# Altium footprint library Capacitor_THT.PcbLib: 378 footprints (part 3 of 24)
Each footprint in its own frame and in the unit in brackets; x right, y up, seen from the top. Pads: shape width x height; smd on the part's side, far side on the other; paste and mask are expansions set on the pad; w line width, h text height; cw(c..) or ccw(c..) is an arc to the next point about the centre after c.
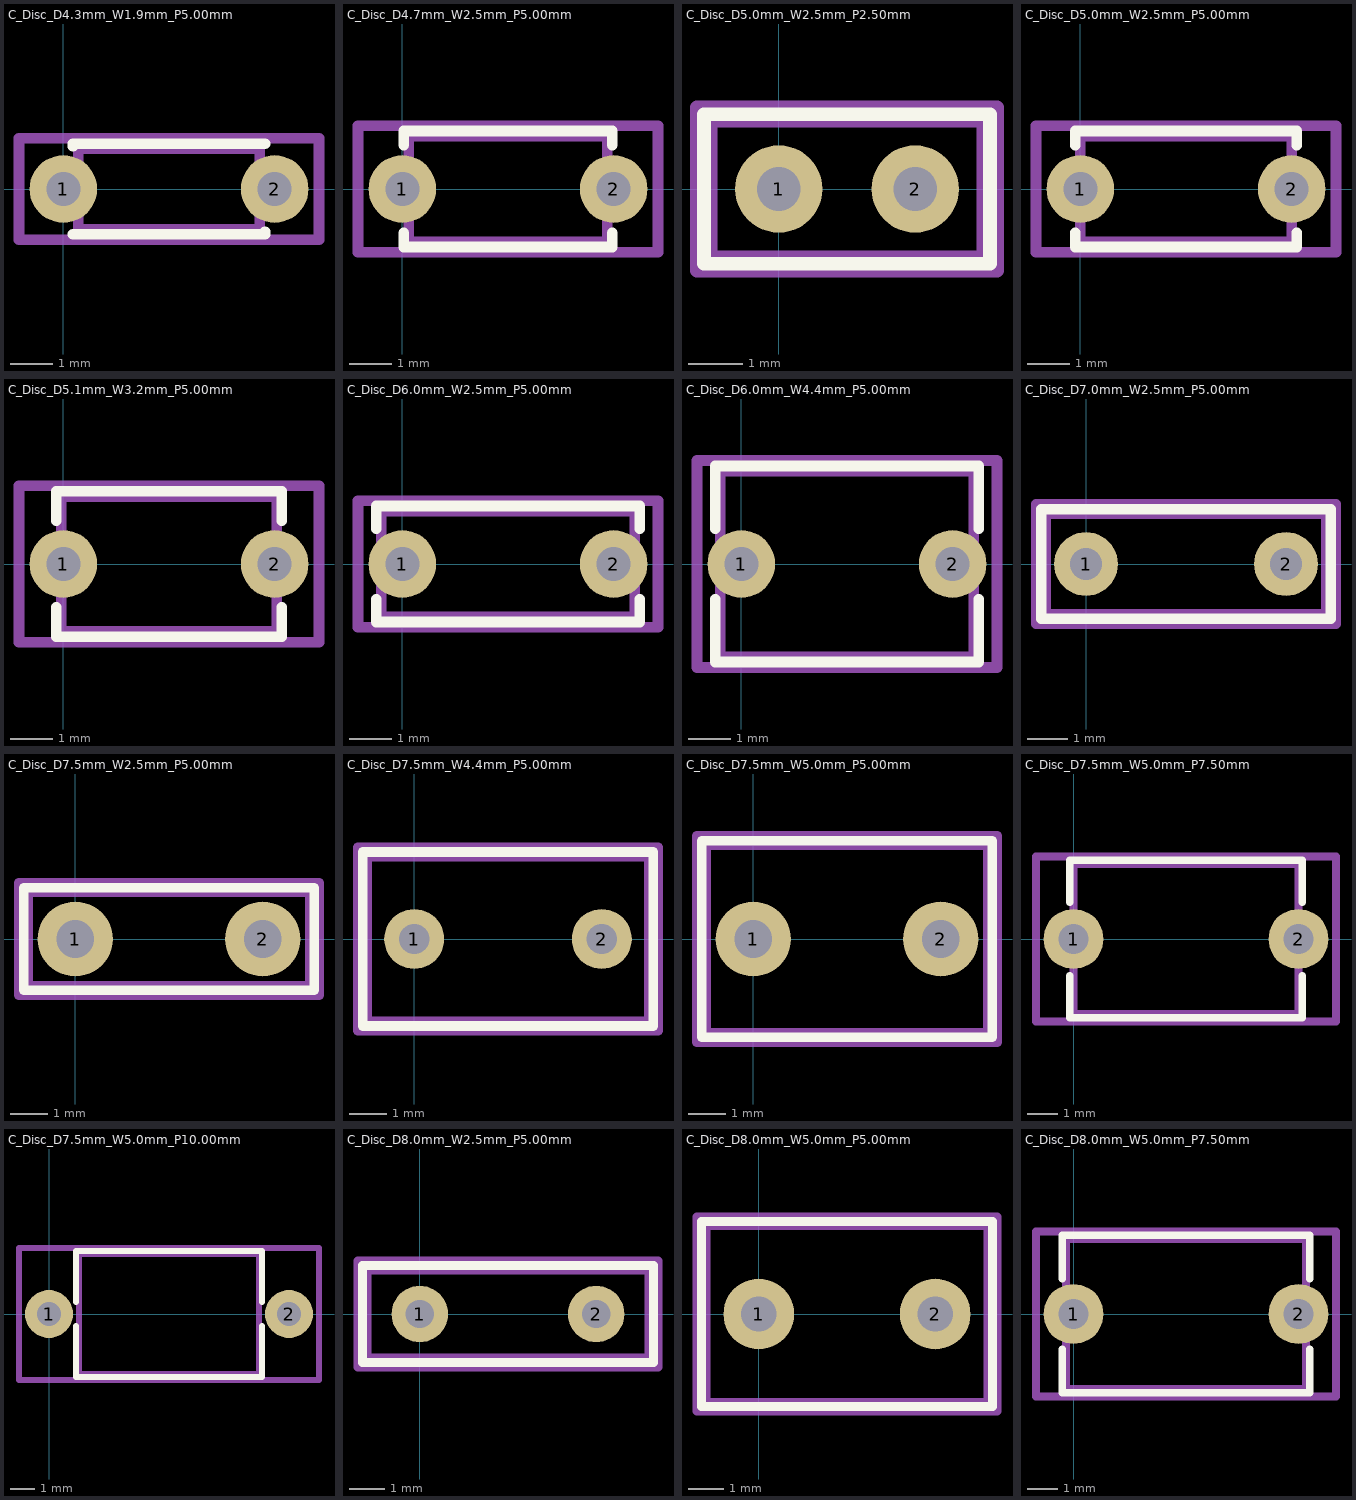
[diagram p2: the footprints below, top view; thin cyan lines are the x and y axes]

## C_Disc_D4.3mm_W1.9mm_P5.00mm [mm]
pads (2):
  round 1.6 hole 0.8: 1(0,0) 2(5,0)
F.SilkS:
  lines w0.254: 0.23,-1.07 4.77,-1.07 4.77,-1.014 ; 0.23,1.014 0.23,1.07 4.77,1.07
Top Assembly:
  lines w0.254: 0.35,-0.95 4.65,-0.95 4.65,0.95 0.35,0.95 0.35,-0.95
  text "'.Designator'" at -0.98,-0.723 h0.86
Top Courtyard:
  lines w0.254: -1.05,-1.2 6.05,-1.2 6.05,1.2 -1.05,1.2 -1.05,-1.2
Top Designator:
  text ".Designator" at -5.118,-0.508 h1.52

## C_Disc_D4.7mm_W2.5mm_P5.00mm [mm]
pads (2):
  round 1.6 hole 0.8: 1(0,0) 2(5,0)
F.SilkS:
  lines w0.254: 0.03,-1.04 0.03,-1.37 4.97,-1.37 4.97,-1.04 ; 0.03,1.04 0.03,1.37 4.97,1.37 4.97,1.04
Top Assembly:
  lines w0.254: 0.15,-1.25 4.85,-1.25 4.85,1.25 0.15,1.25 0.15,-1.25
  text "'.Designator'" at -1.304,-0.79 h0.94
Top Courtyard:
  lines w0.254: -1.05,-1.5 6.05,-1.5 6.05,1.5 -1.05,1.5 -1.05,-1.5
Top Designator:
  text ".Designator" at -5.252,-0.508 h1.52

## C_Disc_D5.0mm_W2.5mm_P2.50mm [mm]
pads (2):
  round 1.6 hole 0.8: 1(0,0) 2(2.5,0)
F.SilkS:
  lines w0.254: -1.37,-1.37 3.87,-1.37 3.87,1.37 -1.37,1.37 -1.37,-1.37
Top Assembly:
  lines w0.254: -1.25,-1.25 3.75,-1.25 3.75,1.25 -1.25,1.25 -1.25,-1.25
  text "'.Designator'" at -2.797,-0.84 h1
Top Courtyard:
  lines w0.254: -1.5,-1.5 4,-1.5 4,1.5 -1.5,1.5 -1.5,-1.5
Top Designator:
  text ".Designator" at -6.518,-0.508 h1.52

## C_Disc_D5.0mm_W2.5mm_P5.00mm [mm]
pads (2):
  round 1.6 hole 0.8: 1(0,0) 2(5,0)
F.SilkS:
  lines w0.254: -0.12,-1.033 -0.12,-1.37 5.12,-1.37 5.12,-1.033 ; -0.12,1.033 -0.12,1.37 5.12,1.37 5.12,1.033
Top Assembly:
  lines w0.254: 0,-1.25 5,-1.25 5,1.25 0,1.25 0,-1.25
  text "'.Designator'" at -1.547,-0.84 h1
Top Courtyard:
  lines w0.254: -1.05,-1.5 6.05,-1.5 6.05,1.5 -1.05,1.5 -1.05,-1.5
Top Designator:
  text ".Designator" at -5.268,-0.508 h1.52

## C_Disc_D5.1mm_W3.2mm_P5.00mm [mm]
pads (2):
  round 1.6 hole 0.8: 1(0,0) 2(5,0)
F.SilkS:
  lines w0.254: -0.17,-1.026 -0.17,-1.72 5.17,-1.72 5.17,-1.026 ; -0.17,1.026 -0.17,1.72 5.17,1.72 5.17,1.026
Top Assembly:
  lines w0.254: -0.05,-1.6 5.05,-1.6 5.05,1.6 -0.05,1.6 -0.05,-1.6
  text "'.Designator'" at -1.547,-0.84 h1
Top Courtyard:
  lines w0.254: -1.05,-1.85 6.05,-1.85 6.05,1.85 -1.05,1.85 -1.05,-1.85
Top Designator:
  text ".Designator" at -5.268,-0.508 h1.52

## C_Disc_D6.0mm_W2.5mm_P5.00mm [mm]
pads (2):
  round 1.6 hole 0.8: 1(0,0) 2(5,0)
F.SilkS:
  lines w0.254: -0.62,-0.835 -0.62,-1.37 5.62,-1.37 5.62,-0.835 ; -0.62,0.835 -0.62,1.37 5.62,1.37 5.62,0.835
Top Assembly:
  lines w0.254: -0.5,-1.25 5.5,-1.25 5.5,1.25 -0.5,1.25 -0.5,-1.25
  text "'.Designator'" at -1.547,-0.84 h1
Top Courtyard:
  lines w0.254: -1.05,-1.5 6.05,-1.5 6.05,1.5 -1.05,1.5 -1.05,-1.5
Top Designator:
  text ".Designator" at -5.268,-0.508 h1.52

## C_Disc_D6.0mm_W4.4mm_P5.00mm [mm]
pads (2):
  round 1.6 hole 0.8: 1(0,0) 2(5,0)
F.SilkS:
  lines w0.254: -0.62,-0.835 -0.62,-2.32 5.62,-2.32 5.62,-0.835 ; -0.62,0.835 -0.62,2.32 5.62,2.32 5.62,0.835
Top Assembly:
  lines w0.254: -0.5,-2.2 5.5,-2.2 5.5,2.2 -0.5,2.2 -0.5,-2.2
  text "'.Designator'" at -1.547,-0.84 h1
Top Courtyard:
  lines w0.254: -1.05,-2.45 6.05,-2.45 6.05,2.45 -1.05,2.45 -1.05,-2.45
Top Designator:
  text ".Designator" at -5.268,-0.508 h1.52

## C_Disc_D7.0mm_W2.5mm_P5.00mm [mm]
pads (2):
  round 1.6 hole 0.8: 1(0,0) 2(5,0)
F.SilkS:
  lines w0.254: -1.12,-1.37 6.12,-1.37 6.12,1.37 -1.12,1.37 -1.12,-1.37
Top Assembly:
  lines w0.254: -1,-1.25 6,-1.25 6,1.25 -1,1.25 -1,-1.25
  text "'.Designator'" at -1.547,-0.84 h1
Top Courtyard:
  lines w0.254: -1.25,-1.5 6.25,-1.5 6.25,1.5 -1.25,1.5 -1.25,-1.5
Top Designator:
  text ".Designator" at -5.268,-0.508 h1.52

## C_Disc_D7.5mm_W2.5mm_P5.00mm [mm]
pads (2):
  round 2 hole 1: 1(0,0) 2(5,0)
F.SilkS:
  lines w0.254: -1.37,-1.37 6.37,-1.37 6.37,1.37 -1.37,1.37 -1.37,-1.37
Top Assembly:
  lines w0.254: -1.25,-1.25 6.25,-1.25 6.25,1.25 -1.25,1.25 -1.25,-1.25
  text "'.Designator'" at -1.547,-0.84 h1
Top Courtyard:
  lines w0.254: -1.5,-1.5 6.5,-1.5 6.5,1.5 -1.5,1.5 -1.5,-1.5
Top Designator:
  text ".Designator" at -5.152,-0.508 h1.52

## C_Disc_D7.5mm_W4.4mm_P5.00mm [mm]
pads (2):
  round 1.6 hole 0.8: 1(0,0) 2(5,0)
F.SilkS:
  lines w0.254: -1.37,-2.32 6.37,-2.32 6.37,2.32 -1.37,2.32 -1.37,-2.32
Top Assembly:
  lines w0.254: -1.25,-2.2 6.25,-2.2 6.25,2.2 -1.25,2.2 -1.25,-2.2
  text "'.Designator'" at -1.547,-0.84 h1
Top Courtyard:
  lines w0.254: -1.5,-2.45 6.5,-2.45 6.5,2.45 -1.5,2.45 -1.5,-2.45
Top Designator:
  text ".Designator" at -5.152,-0.508 h1.52

## C_Disc_D7.5mm_W5.0mm_P5.00mm [mm]
pads (2):
  round 2 hole 1: 1(0,0) 2(5,0)
F.SilkS:
  lines w0.254: -1.37,-2.62 6.37,-2.62 6.37,2.62 -1.37,2.62 -1.37,-2.62
Top Assembly:
  lines w0.254: -1.25,-2.5 6.25,-2.5 6.25,2.5 -1.25,2.5 -1.25,-2.5
  text "'.Designator'" at -1.547,-0.84 h1
Top Courtyard:
  lines w0.254: -1.5,-2.75 6.5,-2.75 6.5,2.75 -1.5,2.75 -1.5,-2.75
Top Designator:
  text ".Designator" at -5.152,-0.508 h1.52

## C_Disc_D7.5mm_W5.0mm_P7.50mm [mm]
pads (2):
  round 2 hole 1: 1(0,0) 2(7.5,0)
F.SilkS:
  lines w0.254: -0.12,-1.234 -0.12,-2.62 7.62,-2.62 7.62,-1.234 ; -0.12,1.234 -0.12,2.62 7.62,2.62 7.62,1.234
Top Assembly:
  lines w0.254: 0,-2.5 7.5,-2.5 7.5,2.5 0,2.5 0,-2.5
  text "'.Designator'" at -0.297,-0.84 h1
Top Courtyard:
  lines w0.254: -1.25,-2.75 8.75,-2.75 8.75,2.75 -1.25,2.75 -1.25,-2.75
Top Designator:
  text ".Designator" at -3.868,-0.508 h1.52

## C_Disc_D7.5mm_W5.0mm_P10.00mm [mm]
pads (2):
  round 2 hole 1: 1(0,0) 2(10,0)
F.SilkS:
  lines w0.254: 1.13,-0.511 1.13,-2.62 8.87,-2.62 8.87,-0.511 ; 1.13,0.511 1.13,2.62 8.87,2.62 8.87,0.511
Top Assembly:
  lines w0.254: 1.25,-2.5 8.75,-2.5 8.75,2.5 1.25,2.5 1.25,-2.5
  text "'.Designator'" at 0.953,-0.84 h1
Top Courtyard:
  lines w0.254: -1.25,-2.75 11.25,-2.75 11.25,2.75 -1.25,2.75 -1.25,-2.75
Top Designator:
  text ".Designator" at -2.618,-0.508 h1.52

## C_Disc_D8.0mm_W2.5mm_P5.00mm [mm]
pads (2):
  round 1.6 hole 0.8: 1(0,0) 2(5,0)
F.SilkS:
  lines w0.254: -1.62,-1.37 6.62,-1.37 6.62,1.37 -1.62,1.37 -1.62,-1.37
Top Assembly:
  lines w0.254: -1.5,-1.25 6.5,-1.25 6.5,1.25 -1.5,1.25 -1.5,-1.25
  text "'.Designator'" at -1.547,-0.84 h1
Top Courtyard:
  lines w0.254: -1.75,-1.5 6.75,-1.5 6.75,1.5 -1.75,1.5 -1.75,-1.5
Top Designator:
  text ".Designator" at -5.118,-0.508 h1.52

## C_Disc_D8.0mm_W5.0mm_P5.00mm [mm]
pads (2):
  round 2 hole 1: 1(0,0) 2(5,0)
F.SilkS:
  lines w0.254: -1.62,-2.62 6.62,-2.62 6.62,2.62 -1.62,2.62 -1.62,-2.62
Top Assembly:
  lines w0.254: -1.5,-2.5 6.5,-2.5 6.5,2.5 -1.5,2.5 -1.5,-2.5
  text "'.Designator'" at -1.547,-0.84 h1
Top Courtyard:
  lines w0.254: -1.75,-2.75 6.75,-2.75 6.75,2.75 -1.75,2.75 -1.75,-2.75
Top Designator:
  text ".Designator" at -5.118,-0.508 h1.52

## C_Disc_D8.0mm_W5.0mm_P7.50mm [mm]
pads (2):
  round 2 hole 1: 1(0,0) 2(7.5,0)
F.SilkS:
  lines w0.254: -0.37,-1.184 -0.37,-2.62 7.87,-2.62 7.87,-1.184 ; -0.37,1.184 -0.37,2.62 7.87,2.62 7.87,1.184
Top Assembly:
  lines w0.254: -0.25,-2.5 7.75,-2.5 7.75,2.5 -0.25,2.5 -0.25,-2.5
  text "'.Designator'" at -0.297,-0.84 h1
Top Courtyard:
  lines w0.254: -1.25,-2.75 8.75,-2.75 8.75,2.75 -1.25,2.75 -1.25,-2.75
Top Designator:
  text ".Designator" at -3.868,-0.508 h1.52